# Altium footprint library Sensor Package.PcbLib: 43 footprints (part 3 of 3)
Each footprint in its own frame and in the unit in brackets; x right, y up, seen from the top. Pads: shape width x height; smd on the part's side, far side on the other; paste and mask are expansions set on the pad; w line width, h text height; cw(c..) or ccw(c..) is an arc to the next point about the centre after c.
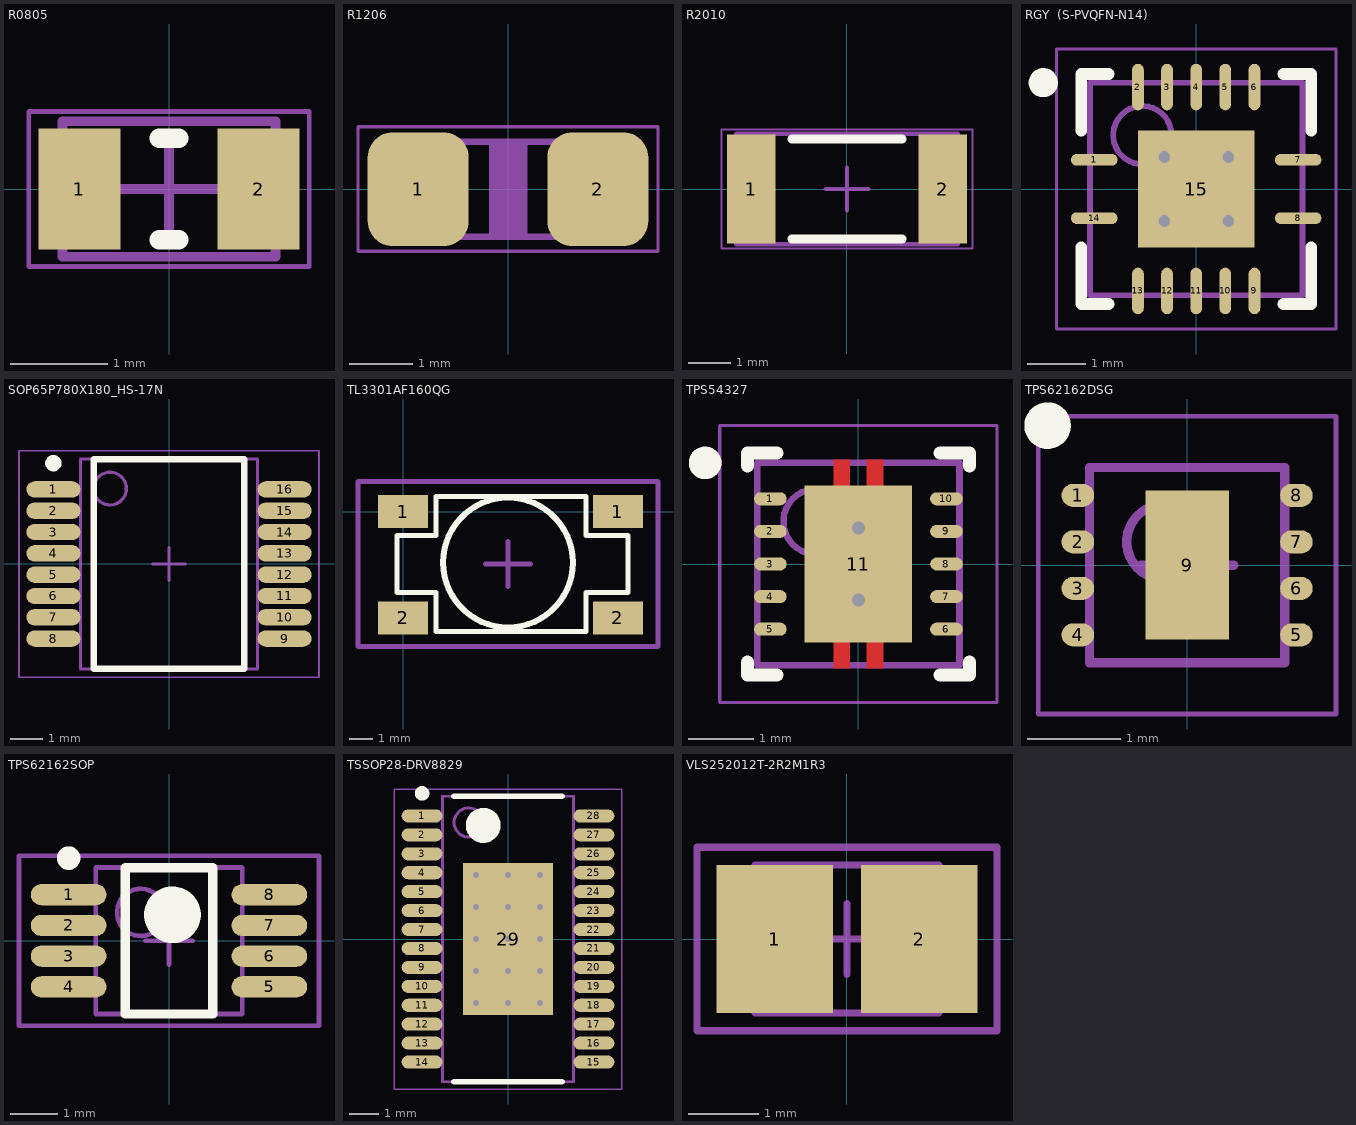
[diagram p2: the footprints below, top view; thin cyan lines are the x and y axes]

## R0805 [mm]
height 0.5
pads (2):
  rect 0.85x1.25 smd: 1(-0.925,0) 2(0.925,0)
Top Overlay:
  lines w0.2: -0.1,-0.525 0.1,-0.525 ; -0.1,0.525 0.1,0.525
Mechanical 13:
  lines w0.1: -1.1,-0.7 1.1,-0.7 1.1,0.7 -1.1,0.7 -1.1,-0.7
Mechanical 15:
  lines w0.05: -1.45,-0.8 1.45,-0.8 1.45,0.8 -1.45,0.8 -1.45,-0.8
  lines w0.1: -0.5,0 0.5,0 ; 0,-0.5 0,0.5
3D body: height 0.5, standoff 0, extent 0.75,-0.7 1.1,0.7
3D body: height 0.5, standoff 0, extent -1.1,-0.7 -0.75,0.7
3D body: height 0.5, standoff 0, extent -0.75,-0.7 0.75,0.7

## R1206 [mil]
pads (2):
  rrect50% 63x71 smd: 1(-55.98,0) 2(56,0)
Mechanical 6:
  rectangle: -11.81,-27.56 12,28
Mechanical 8:
  rectangle: 32.02,-31.5 61.02,31.5
  rectangle: -61.02,-31.5 -32.02,31.5
  lines w3.94: -40.35,29.53 35.65,29.53 ; -34.66,-29.53 41.34,-29.53
Mechanical 15:
  lines w2: -93.5,-38.7 -93.5,39 93.5,39 93.5,-38.7 -93.5,-38.7
3D body: height 23.62, standoff 0, extent -61.02,-31.5 61.02,31.5

## R2010 [mm]
height 0.75
pads (2):
  rect 1.15x2.55 smd: 1(-2.25,0) 2(2.25,0)
Top Overlay:
  lines w0.2: -1.3,-1.175 1.3,-1.175 ; -1.3,1.175 1.3,1.175
Mechanical 13:
  lines w0.1: -2.6,-1.3 2.6,-1.3 2.6,1.3 -2.6,1.3 -2.6,-1.3
Mechanical 15:
  lines w0.05: -2.95,-1.4 2.95,-1.4 2.95,1.4 -2.95,1.4 -2.95,-1.4
  lines w0.1: -0.5,0 0.5,0 ; 0,-0.5 0,0.5
3D body: height 0.75, standoff 0, extent 2.1,-1.3 2.6,1.3
3D body: height 0.75, standoff 0, extent -2.6,-1.3 -2.1,1.3
3D body: height 0.75, standoff 0, extent -2.1,-1.3 2.1,1.3

## RGY  (S-PVQFN-N14) [mm] "QFN, 16-Leads, Body 3.50x3.50mm, Pitch 0.50mm, Thermal Pad 2.00x2.00mm, IPC Medium Density"
height 1
pads (15):
  oval 0.8x0.2 smd: 1(-1.75,0.5) 7(1.75,0.5) 8(1.75,-0.5) 14(-1.75,-0.5)
  oval 0.2x0.8 smd: 2(-1,1.75) 3(-0.5,1.75) 4(0,1.75) 5(0.5,1.75) 6(1,1.75) 9(1,-1.75) 10(0.5,-1.75) 11(0,-1.75) 12(-0.5,-1.75) 13(-1,-1.75)
  rect 2x2 smd: 15(0,0)
via -0.55,0.55 diameter 0.5 hole 0.2
via 0.55,0.55 diameter 0.5 hole 0.2
via -0.55,-0.55 diameter 0.5 hole 0.2
via 0.55,-0.55 diameter 0.5 hole 0.2
Top Overlay:
  circle w0.25: c-2.625,1.825 r0.125
  lines w0.2: -1.975,-1 -1.975,-1.975 -1.5,-1.975 ; -1.975,1 -1.975,1.975 -1.5,1.975 ; 1.5,-1.975 1.975,-1.975 1.975,-1 ; 1.5,1.975 1.975,1.975 1.975,1
Mechanical 13:
  circle w0.1: c-0.925,0.925 r0.5
  lines w0.1: -1.825,-1.825 -1.825,1.825 1.825,1.825 1.825,-1.825 -1.825,-1.825
Mechanical 15:
  lines w0.05: -2.4,-2.4 -2.4,2.4 2.4,2.4 2.4,-2.4 -2.4,-2.4
  lines w0.1: -0.5,0 0.5,0 ; 0,-0.5 0,0.5
3D body: height 1, standoff 0.05, extent -1.825,-1.825 1.825,1.825

## SOP65P780X180_HS-17N [mm] "SOP, 16-Leads, Body 6.20x5.30mm, Pitch 0.65mm, Thermal Pad 5.22x3.10mm, IPC Medium Density"
height 1.8
pads (16):
  oval 1.65x0.5 smd: 1(-3.525,2.275) 2(-3.525,1.625) 3(-3.525,0.975) 4(-3.525,0.325) 5(-3.525,-0.325) 6(-3.525,-0.975) 7(-3.525,-1.625) 8(-3.525,-2.275) 9(3.525,-2.275) 10(3.525,-1.625) 11(3.525,-0.975) 12(3.525,-0.325) 13(3.525,0.325) 14(3.525,0.975) 15(3.525,1.625) 16(3.525,2.275)
Top Overlay:
  circle w0.25: c-3.525,3.075 r0.125
  lines w0.2: -2.3,-3.2 -2.3,3.2 2.3,3.2 2.3,-3.2 -2.3,-3.2
Mechanical 13:
  circle w0.1: c-1.8,2.3 r0.5
  lines w0.1: -2.7,-3.2 -2.7,3.2 2.7,3.2 2.7,-3.2 -2.7,-3.2
Mechanical 15:
  lines w0.05: -4.575,-3.45 -4.575,3.45 4.575,3.45 4.575,-3.45 -4.575,-3.45
  lines w0.1: -0.5,0 0.5,0 ; 0,-0.5 0,0.5
3D body: height 1.8, standoff 0.1, extent -2.7,-3.2 2.7,3.2

## TL3301AF160QG [mm] "TL3301AF160QG Tactile Switch"
pads (4):
  rect 2.1x1.4 smd: 1(0,0) 1(9.1,0) 2(0,-4.5) 2(9.1,-4.5)
Top Overlay:
  circle w0.254: c4.445,-2.159 r2.747
  lines w0.2: -0.254,-3.429 -0.254,-1.016 1.397,-1.016 1.397,0.635 7.747,0.635 7.747,-1.016 9.525,-1.016 9.525,-3.429 7.747,-3.429 7.747,-5.08 7.366,-5.08 1.397,-5.08 1.397,-3.429 -0.254,-3.429
Mechanical 15:
  lines w0.2: 3.492,-2.222 5.397,-2.222 ; 4.445,-3.175 4.445,-1.27 ; -1.905,-5.715 -1.905,1.27 10.795,1.27 10.795,-5.715 -1.905,-5.715
3D body: height 5.11, standoff 0.01, extent -0.428,-5.26 9.572,0.74

## TPS54327 [mm] "QFN, 18-Leads, Body 3.00x3.00mm, Pitch 0.50mm, Thermal Pad 2.40x1.65mm, IPC Medium Density"
height 1
pads (11):
  oval 0.5x0.2 smd: 1(-1.35,1) 2(-1.35,0.5) 3(-1.35,0) 4(-1.35,-0.5) 5(-1.35,-1) 6(1.35,-1) 7(1.35,-0.5) 8(1.35,0) 9(1.35,0.5) 10(1.35,1)
  rect 1.65x2.4 smd: 11(0,0)
via 0,0.55 diameter 0.5 hole 0.2
via 0,-0.55 diameter 0.5 hole 0.2
Top Layer:
  rectangle: 0.127,-1.6 0.381,-1.194
  rectangle: -0.381,-1.6 -0.127,-1.194
  rectangle: -0.381,1.194 -0.127,1.6
  rectangle: 0.127,1.194 0.381,1.6
Top Overlay:
  circle w0.25: c-2.35,1.55 r0.125
  lines w0.2: -1.7,-1.5 -1.7,-1.7 -1.25,-1.7 ; -1.7,1.5 -1.7,1.7 -1.25,1.7 ; 1.25,-1.7 1.7,-1.7 1.7,-1.5 ; 1.25,1.7 1.7,1.7 1.7,1.5
Mechanical 13:
  circle w0.1: c-0.65,0.65 r0.5
  lines w0.1: -1.55,-1.55 -1.55,1.55 1.55,1.55 1.55,-1.55 -1.55,-1.55
Mechanical 15:
  lines w0.05: -2.125,-2.125 -2.125,2.125 2.125,2.125 2.125,-2.125 -2.125,-2.125
  lines w0.1: -0.5,0 0.5,0 ; 0,-0.5 0,0.5
3D body: height 1, standoff 0.05, extent -1.55,-1.55 1.55,1.55

## TPS62162DSG [mm] "QFN, 16-Leads, Body 2.00x2.00mm, Pitch 0.50mm, Thermal Pad 0.90x1.60mm, IPC Medium Density"
height 0.8
pads (9):
  oval 0.35x0.25 smd: 1(-1.175,0.75) 2(-1.175,0.25) 3(-1.175,-0.25) 4(-1.175,-0.75) 5(1.175,-0.75) 6(1.175,-0.25) 7(1.175,0.25) 8(1.175,0.75)
  rect 0.9x1.6 smd: 9(0,0)
Top Overlay:
  circle w0.25: c-1.5,1.5 r0.125
Mechanical 13:
  circle w0.1: c-0.25,0.25 r0.4
  lines w0.1: -1.05,-1.05 -1.05,1.05 1.05,1.05 1.05,-1.05 -1.05,-1.05
Mechanical 15:
  lines w0.05: -1.6,-1.6 -1.6,1.6 1.6,1.6 1.6,-1.6 -1.6,-1.6
  lines w0.1: -0.5,0 0.5,0 ; 0,-0.5 0,0.5
3D body: height 0.8, standoff 0.05, extent -1.05,-1.05 1.05,1.05

## TPS62162SOP [mm] "SOP 8 pin package"
height 1.1
pads (8):
  oval 1.6x0.45 smd: 1(-2.125,0.975) 2(-2.125,0.325) 3(-2.125,-0.325) 4(-2.125,-0.975) 5(2.125,-0.975) 6(2.125,-0.325) 7(2.125,0.325) 8(2.125,0.975)
Top Overlay:
  circle w0.25: c-2.125,1.75 r0.125
  circle w0.6: c0.075,0.55 r0.3
  lines w0.2: -0.925,-1.55 -0.925,1.55 0.925,1.55 0.925,-1.55 -0.925,-1.55
Mechanical 13:
  circle w0.1: c-0.6,0.6 r0.5
  lines w0.1: -1.55,-1.55 -1.55,1.55 1.55,1.55 1.55,-1.55 -1.55,-1.55
Mechanical 15:
  lines w0.1: -0.5,0 0.5,0 ; 0,-0.5 0,0.5 ; -3.175,-1.8 -3.175,1.8 3.175,1.8 3.175,-1.8 -3.175,-1.8
3D body: height 1.1, standoff 0.23, extent -1.55,-1.55 1.55,1.55

## TSSOP28-DRV8829 [mm] "TSOP, 28-Leads, Body 9.70x4.40mm, Pitch 0.65mm, Thermal Pad 5.22x3.10mm, IPC Medium Density"
height 1.2
pads (29):
  oval 1.4x0.45 smd: 1(-2.95,4.225) 2(-2.95,3.575) 3(-2.95,2.925) 4(-2.95,2.275) 5(-2.95,1.625) 6(-2.95,0.975) 7(-2.95,0.325) 8(-2.95,-0.325) 9(-2.95,-0.975) 10(-2.95,-1.625) 11(-2.95,-2.275) 12(-2.95,-2.925) 13(-2.95,-3.575) 14(-2.95,-4.225) 15(2.95,-4.225) 16(2.95,-3.575) 17(2.95,-2.925) 18(2.95,-2.275) 19(2.95,-1.625) 20(2.95,-0.975) 21(2.95,-0.325) 22(2.95,0.325) 23(2.95,0.975) 24(2.95,1.625) 25(2.95,2.275) 26(2.95,2.925) 27(2.95,3.575) 28(2.95,4.225)
  rect 3.1x5.22 smd: 29(0,0)
via 1.1,-2.2 diameter 0.5 hole 0.2
via 0,-2.2 diameter 0.5 hole 0.2
via -1.1,-2.2 diameter 0.5 hole 0.2
via 1.1,-1.1 diameter 0.5 hole 0.2
via 0,-1.1 diameter 0.5 hole 0.2
via -1.1,-1.1 diameter 0.5 hole 0.2
via 1.1,0 diameter 0.5 hole 0.2
via 0,0 diameter 0.5 hole 0.2
via -1.1,0 diameter 0.5 hole 0.2
via 1.1,1.1 diameter 0.5 hole 0.2
via 0,1.1 diameter 0.5 hole 0.2
via -1.1,1.1 diameter 0.5 hole 0.2
via 1.1,2.2 diameter 0.5 hole 0.2
via 0,2.2 diameter 0.5 hole 0.2
via -1.1,2.2 diameter 0.5 hole 0.2
Top Overlay:
  circle w0.6: c-0.85,3.9 r0.3
  circle w0.25: c-2.95,5 r0.125
  lines w0.2: -1.85,-4.9 1.85,-4.9 ; -1.85,4.9 1.85,4.9
Mechanical 13:
  circle w0.1: c-1.35,4 r0.5
  lines w0.1: -2.25,-4.9 2.25,-4.9 2.25,4.9 -2.25,4.9 -2.25,-4.9
Mechanical 15:
  lines w0.05: -3.9,-5.15 3.9,-5.15 3.9,5.15 -3.9,5.15 -3.9,-5.15
  lines w0.1: -0.5,0 0.5,0 ; 0,-0.5 0,0.5
3D body: height 1.2, standoff 0.1, extent -2.25,-4.9 2.25,4.9

## VLS252012T-2R2M1R3 [mm] "Precision Wire Wound Inductor, 2-Leads, Body 2.5x2.0mm, IPC Medium Density"
height 1.2
pads (2):
  rect 1.65x2.1 smd: 1(-1.025,0) 2(1.025,0)
Mechanical 13:
  lines w0.1: -1.3,-1.05 1.3,-1.05 1.3,1.05 -1.3,1.05 -1.3,-1.05
Mechanical 15:
  lines w0.1: -0.5,0 0.5,0 ; 0,-0.5 0,0.5 ; -2.125,-1.3 2.125,-1.3 2.125,1.3 -2.125,1.3 -2.125,-1.3
3D body: height 1.2, standoff 0, extent -1.3,-1.05 1.3,1.05